# Altium schematic symbol library 2N7002.Schlib: 1 symbol
Pins are listed as number, name and electrical type; pins without a type are passive.

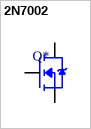
[diagram p0: symbol 2N7002]

## 2N7002
designator Q*
N-Channel 60V 115mA 2.5V @ 250uA 7.5Ω @ 500mA,10V 200mW SOT-23(SOT-23-3) MOSFET RoHS; ComponentLink1Description: LCSC - Changjiang Electronics Tech (CJ) 2N7002; ComponentLink1URL: https://lcsc.com/product-detail/MOSFET_Changjiang-Electronics-Tech-CJ-2N7002_C8545.html/?href=jlc-SMT; LCSC Part #: C8545; JLCPCB Part Type: Basic
footprint SOT23-3
pins: 1 G, 2 S, 3 D